# Altium footprint library IC_ROHM_BD4830G-TR_3V.PcbLib: 1 footprints
Each footprint in its own frame and in the unit in brackets; x right, y up, seen from the top. Pads: shape width x height; smd on the part's side, far side on the other; paste and mask are expansions set on the pad; w line width, h text height; cw(c..) or ccw(c..) is an arc to the next point about the centre after c.
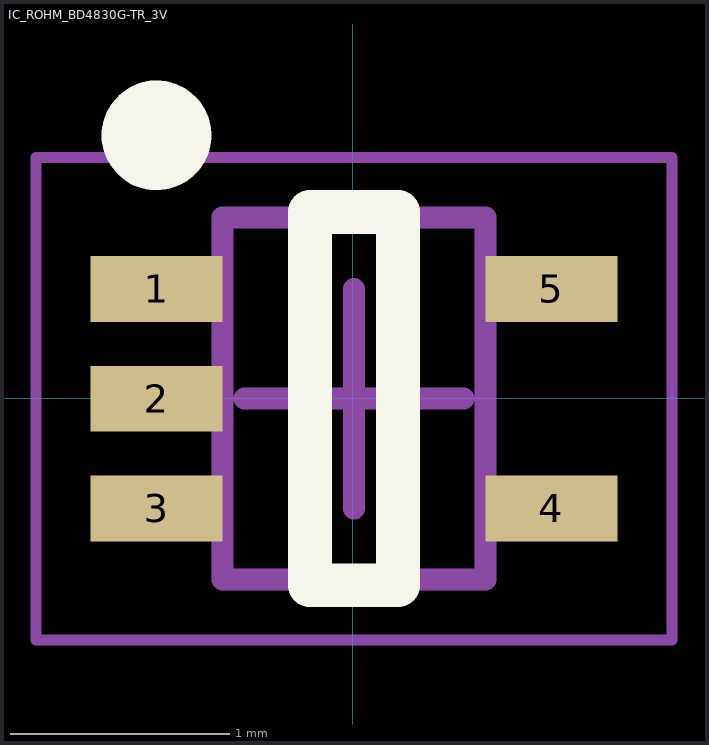
[diagram p0: the footprint, top view; thin cyan lines are the x and y axes]

## IC_ROHM_BD4830G-TR_3V [mm]
pads (5):
  rect 0.6x0.3 smd: 1(-0.894,0.498) 2(-0.894,-0.002) 3(-0.894,-0.502) 4(0.906,-0.502) 5(0.906,0.498)
Top Overlay:
  circle w0.25: c-0.894,1.198 r0.125
  lines w0.2: -0.194,-0.852 0.206,-0.852 0.206,0.848 -0.194,0.848 -0.194,-0.852
Mechanical 13:
  lines w0.1: -0.594,-0.827 -0.594,0.823 0.606,0.823 0.606,-0.827 -0.594,-0.827
Mechanical 15:
  lines w0.05: -1.444,-1.102 -1.444,1.098 1.456,1.098 1.456,-1.102 -1.444,-1.102
  lines w0.1: -0.494,-0.002 0.506,-0.002 ; 0.006,-0.502 0.006,0.498
3D body "SOT50P160X55-5N.step": height 0.55, standoff 0, extent -0.919,-0.827 0.931,0.823